# EAGLE library part SSOP4_28P (library kxnStandard_TestBoard)
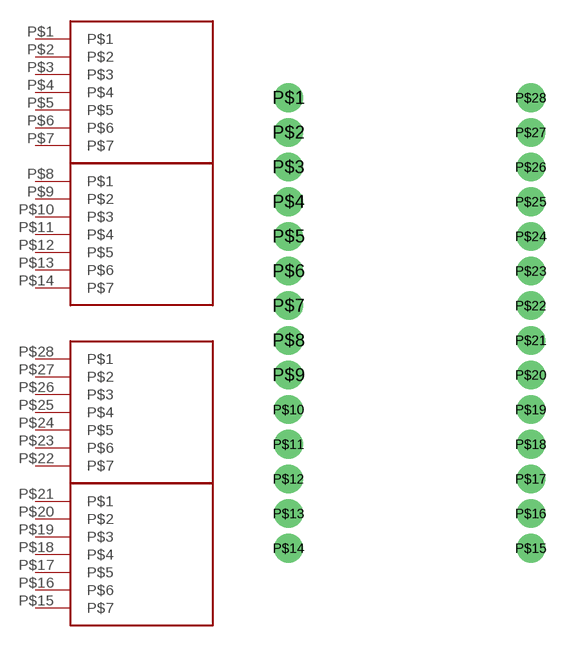
[diagram p1: symbol with the pads of SSOP28P; footprint SSOP28P]

Designator prefix -; gates G$1=7P G$2=7P G$3=7P G$4=7P

## SSOP4_28P  [SSOP28P]
P$1  G$1:P$1
P$2  G$1:P$2
P$3  G$1:P$3
P$4  G$1:P$4
P$5  G$1:P$5
P$6  G$1:P$6
P$7  G$1:P$7
P$8  G$2:P$1
P$9  G$2:P$2
P$10  G$2:P$3
P$11  G$2:P$4
P$12  G$2:P$5
P$13  G$2:P$6
P$14  G$2:P$7
P$15  G$4:P$7
P$16  G$4:P$6
P$17  G$4:P$5
P$18  G$4:P$4
P$19  G$4:P$3
P$20  G$4:P$2
P$21  G$4:P$1
P$22  G$3:P$7
P$23  G$3:P$6
P$24  G$3:P$5
P$25  G$3:P$4
P$26  G$3:P$3
P$27  G$3:P$2
P$28  G$3:P$1

## Footprint SSOP28P (pad centres in mm)
drill 1.4 pad 1.8: P$1 0,0; P$2 0,-2.54; P$3 0,-5.08; P$4 0,-7.62; P$5 0,-10.16; P$6 0,-12.7; P$7 0,-15.24; P$8 0,-17.78; P$9 0,-20.32; P$10 0,-22.86; P$11 0,-25.4; P$12 0,-27.94; P$13 0,-30.48; P$14 0,-33.02; P$15 17.78,-33.02; P$16 17.78,-30.48; P$17 17.78,-27.94; P$18 17.78,-25.4; P$19 17.78,-22.86; P$20 17.78,-20.32; P$21 17.78,-17.78; P$22 17.78,-15.24; P$23 17.78,-12.7; P$24 17.78,-10.16; P$25 17.78,-7.62; P$26 17.78,-5.08; P$27 17.78,-2.54; P$28 17.78,0